# Altium footprint library Footprint.PcbLib: 1 footprints
Each footprint in its own frame and in the unit in brackets; x right, y up, seen from the top. Pads: shape width x height; smd on the part's side, far side on the other; paste and mask are expansions set on the pad; w line width, h text height; cw(c..) or ccw(c..) is an arc to the next point about the centre after c.
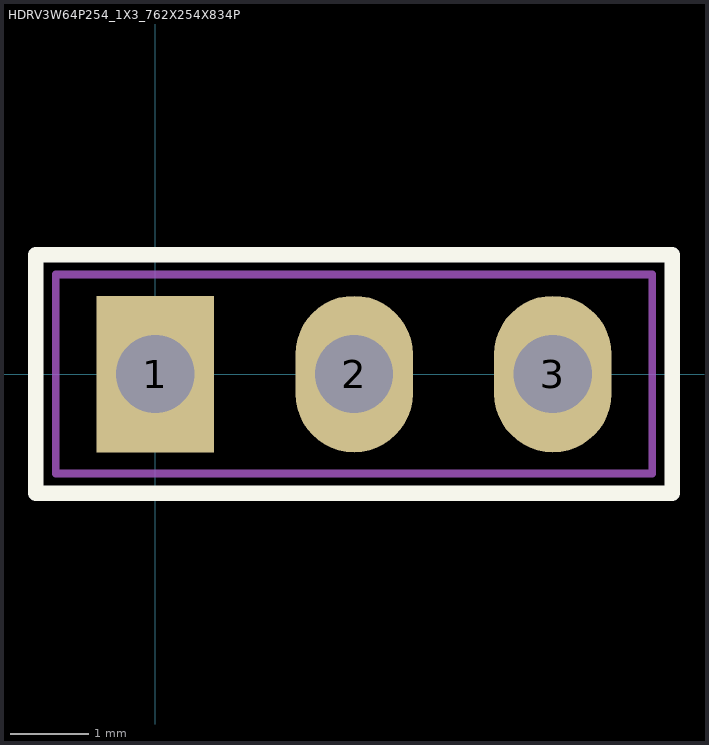
[diagram p0: the footprint, top view; thin cyan lines are the x and y axes]

## HDRV3W64P254_1X3_762X254X834P [mm] "Connector, 3-Leads, Body 7.62x2.54mm, IPC Medium Density"
height 8.34
pads (3):
  rect 1.5x2 hole 1: 1(0,0)
  oval 1.5x2 hole 1: 2(2.54,0) 3(5.08,0)
Top Overlay:
  lines w0.2: -1.524,-1.524 -1.524,1.524 6.604,1.524 6.604,-1.524 -1.524,-1.524
Top Pattern:
  lines w0.1: -1.27,-1.27 -1.27,1.27 6.35,1.27 6.35,-1.27 -1.27,-1.27 ; -0.254,-0.254 -0.254,0.254 0.254,0.254 0.254,-0.254 -0.254,-0.254 ; 2.286,-0.254 2.286,0.254 2.794,0.254 2.794,-0.254 2.286,-0.254 ; 4.826,-0.254 4.826,0.254 5.334,0.254 5.334,-0.254 4.826,-0.254
  text ".Designator" at -1.651,2.032 h1.52
Courtyard:
  lines w0.1: -1.525,-1.524 -1.525,1.525 6.604,1.525 6.604,-1.524 -1.525,-1.524
3D body "M20-9770346-3.step": height 8.34, standoff -3.1, extent -1.27,-1.27 6.35,1.27